# Altium schematic symbol library SCH - DRIVER - GATE - INFINEON 1EDN71X6G.SchLib: 1 symbol
Pins are listed as number, name and electrical type; pins without a type are passive.

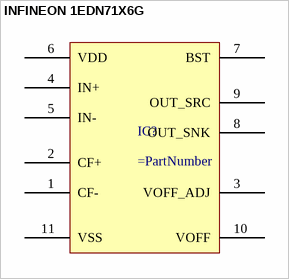
[diagram p0: symbol INFINEON 1EDN71X6G]

## INFINEON 1EDN71X6G
designator IC?
pins: 1 CF-, 2 CF+, 3 VOFF_ADJ, 4 IN+, 5 IN-, 6 VDD, 7 BST, 8 OUT_SNK, 9 OUT_SRC, 10 VOFF, 11 VSS